# Altium integrated library BatteryHolders.IntLib: 1 symbol
Pins are listed as number, name and electrical type; pins without a type are passive.

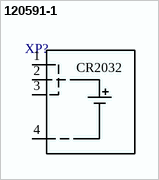
[diagram p0: symbol 120591-1]

## 120591-1
designator XP?  (value not drawn)
ESKD: 120591-1 TE Connectivity или аналог
footprint CR2032_Holder
pins: 1 +, 2 +, 3 +, 4 -
text: CR2032